# EAGLE library part CD4066 (library _mtvl_ic)
74HC4066; 74HCT4066 Quad single-pole single-throw analog switch https://static.chipdip.ru/lib/497/DOC011497710.pdf
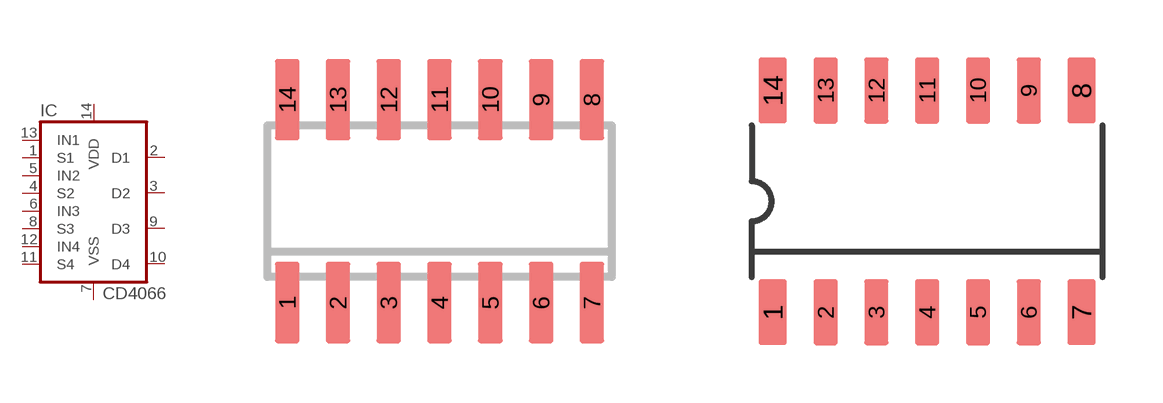
[diagram p52: symbol with the pads of SO-14_; footprints SO-14_, SO14-NEXPERIA]

Designator prefix IC

## CD4066D  [SO-14_]
1  S1
2  D1
3  D2
4  S2
5  IN2
6  IN3
7  VSS
8  S3
9  D3
10  D4
11  S4
12  IN4
13  IN1
14  VDD

## CD4066D-NEXPERIA  [SO14-NEXPERIA]
Pads as for SO-14_

## Footprint SO-14_ (pad centres in mm)
Small Outline Narrow Plastic Gull Wing 150-mil body, package type SL
smd 0.61 x 2.032: 1 -3.81,-2.54; 2 -2.54,-2.54; 3 -1.27,-2.54; 4 0,-2.54; 5 1.27,-2.54; 6 2.54,-2.54; 7 3.81,-2.54; 8 3.81,2.54; 9 2.54,2.54; 10 1.27,2.54; 11 0,2.54; 12 -1.27,2.54; 13 -2.54,2.54; 14 -3.81,2.54

## Footprint SO14-NEXPERIA (pad centres in mm)
SOT108-1 plastic, small outline package; 14 leads; 1.27 mm pitch; 8.65mm x 3.9 mm x 1.75 mm body 15 June 2022 https://assets.nexperia.com/documents/package-information/SOT108-1.pdf
smd 0.7 x 1.65: 1 -3.86,-2.775; 7 3.86,-2.775; 8 3.86,2.775; 14 -3.86,2.775
smd 0.6 x 1.65: 2 -2.54,-2.775; 3 -1.27,-2.775; 4 0,-2.775; 5 1.27,-2.775; 6 2.54,-2.775; 9 2.54,2.775; 10 1.27,2.775; 11 0,2.775; 12 -1.27,2.775; 13 -2.54,2.775